# Altium footprint library AMP Footprints.PcbLib: 903 footprints (part 49 of 58)
Each footprint in its own frame and in the unit in brackets; x right, y up, seen from the top. Pads: shape width x height; smd on the part's side, far side on the other; paste and mask are expansions set on the pad; w line width, h text height; cw(c..) or ccw(c..) is an arc to the next point about the centre after c.
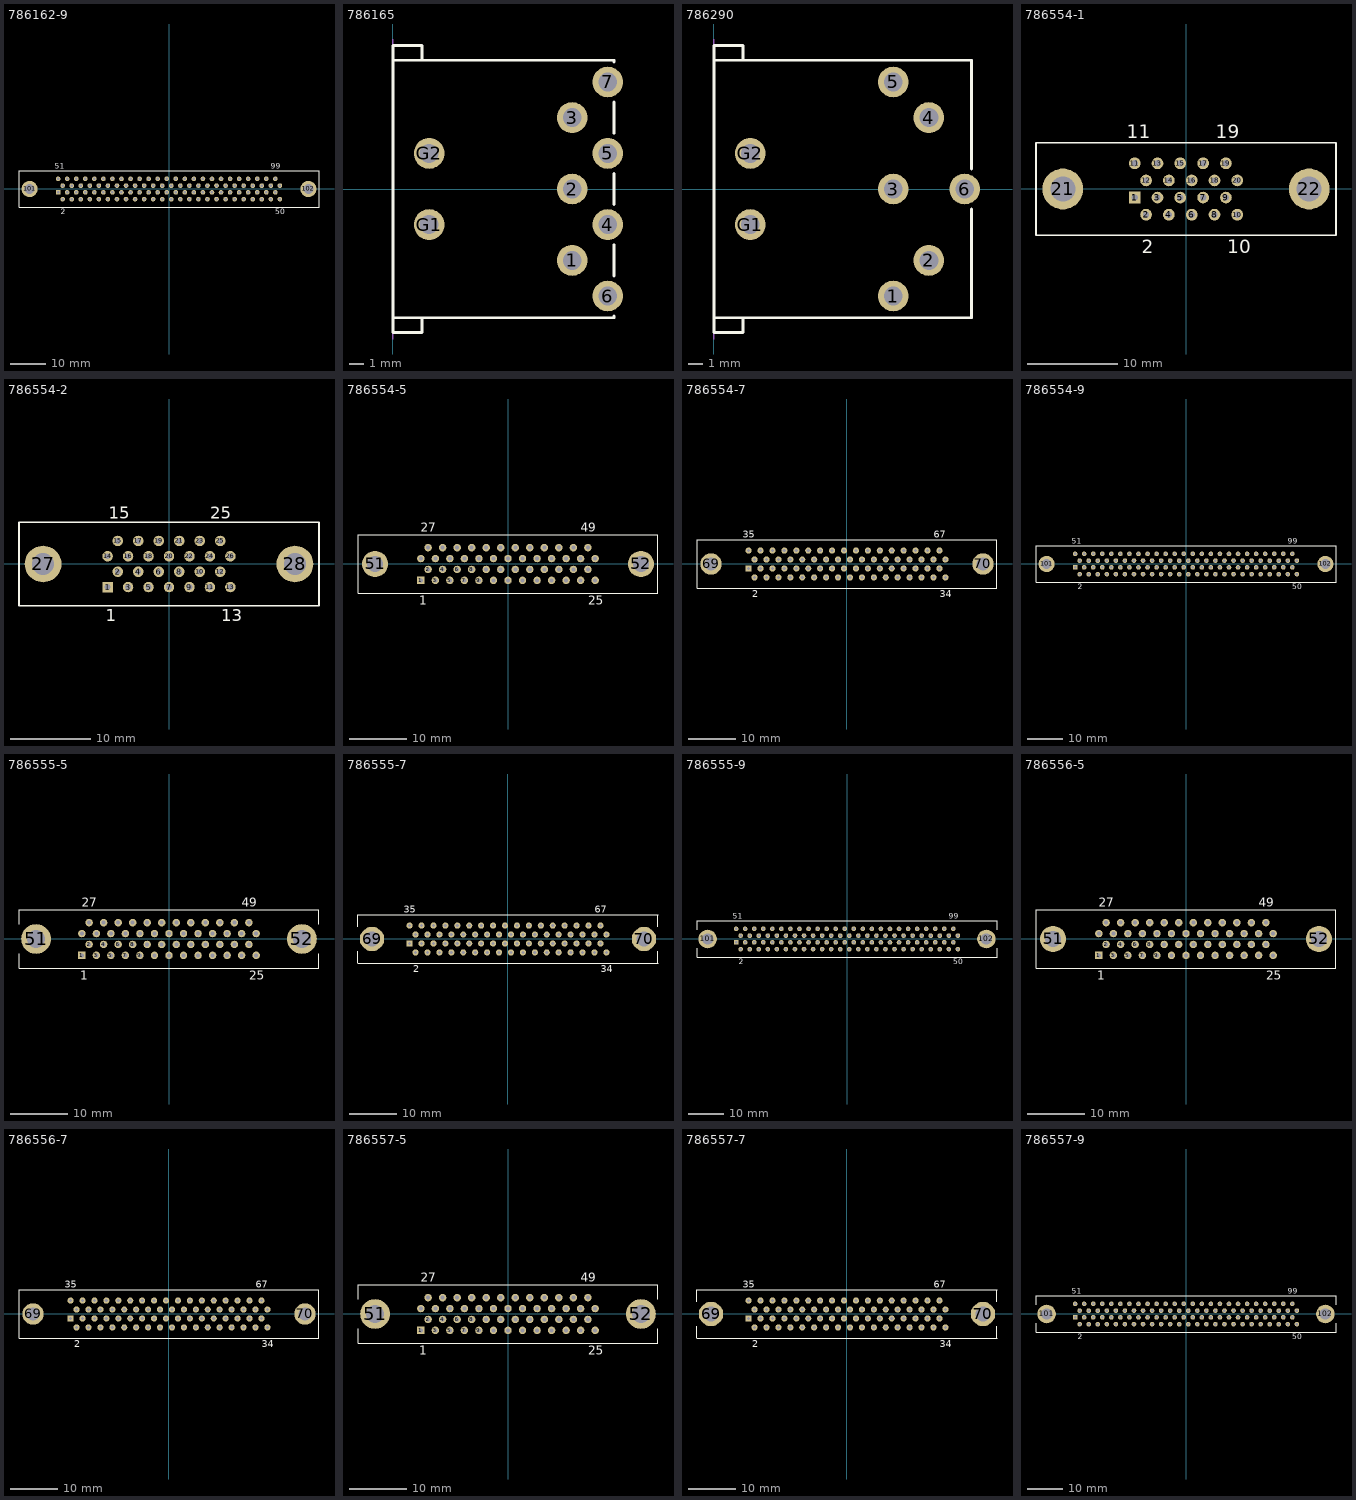
[diagram p48: the footprints below, top view; thin cyan lines are the x and y axes]

## 786162-9 [mil] "Connector; D Subminiature 050 Series; 100 Position; Vertical"
height 356.3
pads (102):
  rect 51.22x51.22 hole 27.6: 1(-1225,-37.5)
  round 51.22 hole 27.6: 2(-1175,-112.5) 3(-1125,-37.5) 4(-1075,-112.5) 5(-1025,-37.5) 6(-975,-112.5) 7(-925,-37.5) 8(-875,-112.5) 9(-825,-37.5) 10(-775,-112.5) 11(-725,-37.5) 12(-675,-112.5) 13(-625,-37.5) 14(-575,-112.5) 15(-525,-37.5) 16(-475,-112.5) 17(-425,-37.5) 18(-375,-112.5) 19(-325,-37.5) 20(-275,-112.5) 21(-225,-37.5) 22(-175,-112.5) 23(-125,-37.5) 24(-75,-112.5) 25(-25,-37.5) 26(25,-112.5) 27(75,-37.5) 28(125,-112.5) 29(175,-37.5) 30(225,-112.5) 31(275,-37.5) 32(325,-112.5) 33(375,-37.5) 34(425,-112.5) 35(475,-37.5) 36(525,-112.5) 37(575,-37.5) 38(625,-112.5) 39(675,-37.5) 40(725,-112.5) 41(775,-37.5) 42(825,-112.5) 43(875,-37.5) 44(925,-112.5) 45(975,-37.5) 46(1025,-112.5) 47(1075,-37.5) 48(1125,-112.5) 49(1175,-37.5) 50(1225,-112.5) 51(-1225,112.5) 52(-1175,37.5) 53(-1125,112.5) 54(-1075,37.5) 55(-1025,112.5) 56(-975,37.5) 57(-925,112.5) 58(-875,37.5) 59(-825,112.5) 60(-775,37.5) 61(-725,112.5) 62(-675,37.5) 63(-625,112.5) 64(-575,37.5) 65(-525,112.5) 66(-475,37.5) 67(-425,112.5) 68(-375,37.5) 69(-325,112.5) 70(-275,37.5) 71(-225,112.5) 72(-175,37.5) 73(-125,112.5) 74(-75,37.5) 75(-25,112.5) 76(25,37.5) 77(75,112.5) 78(125,37.5) 79(175,112.5) 80(225,37.5) 81(275,112.5) 82(325,37.5) 83(375,112.5) 84(425,37.5) 85(475,112.5) 86(525,37.5) 87(575,112.5) 88(625,37.5) 89(675,112.5) 90(725,37.5) 91(775,112.5) 92(825,37.5) 93(875,112.5) 94(925,37.5) 95(975,112.5) 96(1025,37.5) 97(1075,112.5) 98(1125,37.5) 99(1175,112.5) 100(1225,37.5)
  round 179.13 hole 109.06: 101(-1539.96,0) 102(1539.96,0)
Top Overlay:
  lines w7.87: -1657.48,-202.95 1657.48,-202.95 1657.48,202.95 -1657.48,202.95 -1657.48,-202.95
  text "99" at 1125.79,221.65 h59.06
  text "2" at -1194.68,-280.71 h59.06
  text "51" at -1264.37,221.65 h59.06
  text "50" at 1175.79,-280.71 h59.06

## 786165 [mm] "Connector; Circular DIN, Thru-Hole; 7 Position; Right Angle; Pitch 2.49/2.51 mm; Body 18.03 x 15.49 x 20.83 mm (WxTxH)"
height 20.83
pads (9):
  round 2.15 hole 1.32: 1(12.55,-5) 2(12.55,0) 3(12.55,5) 4(15.04,-2.49) 5(15.04,2.49) 6(15.04,-7.49) 7(15.04,7.49) G1(2.54,-2.49) G2(2.54,2.49)
Top Overlay:
  lines w0.2: 2.03,-9.015 2.03,-10.035 0,-10.035 0,-9.015 ; 2.03,9.015 2.03,10.035 0,10.035 0,9.015 ; 15.49,-8.9 15.49,-9.015 0,-9.015 ; 15.49,-6.08 15.49,-3.9 ; 15.49,-1.08 15.49,1.08 ; 15.49,3.9 15.49,6.08 ; 15.49,8.9 15.49,9.015 0,9.015 ; 0,-9.015 0,9.015
Mechanical 1:
  lines w0.1: 0,-10.5 0,10.5
  text "PCB Edge" at 0.6,-8.6 h0.25

## 786290 [mm] "Connector; Circular DIN, Thru-Hole; 6 Position; Right Angle; Pitch 2.49/2.51 mm; Body 18.03 x 18.00 x 20.83 mm (WxTxH)"
height 20.83
pads (8):
  round 2.15 hole 1.32: 1(12.55,-7.49) 2(15.04,-5) 3(12.55,0) 4(15.04,5) 5(12.55,7.49) 6(17.55,0) G1(2.54,-2.49) G2(2.54,2.49)
Top Overlay:
  lines w0.2: 2.03,-9.015 2.03,-10.035 0,-10.035 0,-9.015 ; 2.03,9.015 2.03,10.035 0,10.035 0,9.015 ; 18.03,-1.4 18.03,-9.015 0,-9.015 ; 18.03,1.4 18.03,9.015 0,9.015 ; 0,-9.015 0,9.015
Mechanical 1:
  lines w0.1: 0,-10.5 0,10.5
  text "PCB Edge" at 0.6,-8.6 h0.25

## 786554-1 [mil] "Connector; D Subminiature 050 Series; 20 Position; Vertical"
height 356.3
pads (22):
  rect 51.22x51.22 hole 27.6: 1(-225,-37.5)
  round 51.22 hole 27.6: 2(-175,-112.5) 3(-125,-37.5) 4(-75,-112.5) 5(-25,-37.5) 6(25,-112.5) 7(75,-37.5) 8(125,-112.5) 9(175,-37.5) 10(225,-112.5) 11(-225,112.5) 12(-175,37.5) 13(-125,112.5) 14(-75,37.5) 15(-25,112.5) 16(25,37.5) 17(75,112.5) 18(125,37.5) 19(175,112.5) 20(225,37.5)
  round 179.13 hole 109.06: 21(-539.96,0) 22(539.96,0)
Top Overlay:
  lines w7.87: -657.48,-202.95 657.48,-202.95 657.48,202.95 -657.48,202.95 -657.48,-202.95
  text "2" at -194.69,-280.71 h59.06
  text "11" at -259.45,221.65 h59.06
  text "10" at 180.71,-280.71 h59.06
  text "19" at 130.71,221.65 h59.06

## 786554-2 [mil] "Connector; D Subminiature 050 Series; 26 Position; Vertical"
height 356.3
pads (28):
  rect 51.22x51.22 hole 27.6: 1(-300,-112.5)
  round 51.22 hole 27.6: 2(-250,-37.5) 3(-200,-112.5) 4(-150,-37.5) 5(-100,-112.5) 6(-50,-37.5) 7(0,-112.5) 8(50,-37.5) 9(100,-112.5) 10(150,-37.5) 11(200,-112.5) 12(250,-37.5) 13(300,-112.5) 14(-300,37.5) 15(-250,112.5) 16(-200,37.5) 17(-150,112.5) 18(-100,37.5) 19(-50,112.5) 20(0,37.5) 21(50,112.5) 22(100,37.5) 23(150,112.5) 24(200,37.5) 25(250,112.5) 26(300,37.5)
  round 179.13 hole 109.06: 27(-614.96,0) 28(614.96,0)
Top Overlay:
  lines w7.87: -732.48,-202.95 -732.48,202.95 732.48,202.95 732.48,-202.95 -732.48,-202.95
  text "25" at 200.79,221.65 h59.06
  text "15" at -294.29,221.65 h59.06
  text "13" at 255.71,-280.71 h59.06
  text "1" at -309.84,-280.71 h59.06

## 786554-5 [mil] "Connector; D Subminiature 050 Series; 50 Position; Vertical"
height 356.3
pads (52):
  rect 51.22x51.22 hole 27.6: 1(-600,-112.5)
  round 51.22 hole 27.6: 2(-550,-37.5) 3(-500,-112.5) 4(-450,-37.5) 5(-400,-112.5) 6(-350,-37.5) 7(-300,-112.5) 8(-250,-37.5) 9(-200,-112.5) 10(-150,-37.5) 11(-100,-112.5) 12(-50,-37.5) 13(0,-112.5) 14(50,-37.5) 15(100,-112.5) 16(150,-37.5) 17(200,-112.5) 18(250,-37.5) 19(300,-112.5) 20(350,-37.5) 21(400,-112.5) 22(450,-37.5) 23(500,-112.5) 24(550,-37.5) 25(600,-112.5) 26(-600,37.5) 27(-550,112.5) 28(-500,37.5) 29(-450,112.5) 30(-400,37.5) 31(-350,112.5) 32(-300,37.5) 33(-250,112.5) 34(-200,37.5) 35(-150,112.5) 36(-100,37.5) 37(-50,112.5) 38(0,37.5) 39(50,112.5) 40(100,37.5) 41(150,112.5) 42(200,37.5) 43(250,112.5) 44(300,37.5) 45(350,112.5) 46(400,37.5) 47(450,112.5) 48(500,37.5) 49(550,112.5) 50(600,37.5)
  round 179.13 hole 109.06: 51(-914.96,0) 52(914.96,0)
Top Overlay:
  lines w7.87: -1032.48,-202.95 -1032.48,202.95 1032.48,202.95 1032.48,-202.95 -1032.48,-202.95
  text "49" at 500.79,221.65 h59.06
  text "27" at -599.21,221.65 h59.06
  text "25" at 550.79,-280.71 h59.06
  text "1" at -609.84,-280.71 h59.06

## 786554-7 [mil] "Connector; D Subminiature 050 Series; 68 Position; Vertical"
height 356.3
pads (70):
  rect 51.22x51.22 hole 27.6: 1(-825,-37.5)
  round 51.22 hole 27.6: 2(-775,-112.5) 3(-725,-37.5) 4(-675,-112.5) 5(-625,-37.5) 6(-575,-112.5) 7(-525,-37.5) 8(-475,-112.5) 9(-425,-37.5) 10(-375,-112.5) 11(-325,-37.5) 12(-275,-112.5) 13(-225,-37.5) 14(-175,-112.5) 15(-125,-37.5) 16(-75,-112.5) 17(-25,-37.5) 18(25,-112.5) 19(75,-37.5) 20(125,-112.5) 21(175,-37.5) 22(225,-112.5) 23(275,-37.5) 24(325,-112.5) 25(375,-37.5) 26(425,-112.5) 27(475,-37.5) 28(525,-112.5) 29(575,-37.5) 30(625,-112.5) 31(675,-37.5) 32(725,-112.5) 33(775,-37.5) 34(825,-112.5) 35(-825,112.5) 36(-775,37.5) 37(-725,112.5) 38(-675,37.5) 39(-625,112.5) 40(-575,37.5) 41(-525,112.5) 42(-475,37.5) 43(-425,112.5) 44(-375,37.5) 45(-325,112.5) 46(-275,37.5) 47(-225,112.5) 48(-175,37.5) 49(-125,112.5) 50(-75,37.5) 51(-25,112.5) 52(25,37.5) 53(75,112.5) 54(125,37.5) 55(175,112.5) 56(225,37.5) 57(275,112.5) 58(325,37.5) 59(375,112.5) 60(425,37.5) 61(475,112.5) 62(525,37.5) 63(575,112.5) 64(625,37.5) 65(675,112.5) 66(725,37.5) 67(775,112.5) 68(825,37.5)
  round 179.13 hole 109.06: 69(-1139.96,0) 70(1139.96,0)
Top Overlay:
  lines w7.87: -1257.48,-202.95 -1257.48,202.95 1257.48,202.95 1257.48,-202.95 -1257.48,-202.95
  text "2" at -794.68,-280.71 h59.06
  text "34" at 775.79,-280.71 h59.06
  text "35" at -874.21,221.65 h59.06
  text "67" at 725.79,221.65 h59.06

## 786554-9 [mil] "Connector; D Subminiature 050 Series; 100 Position; Vertical"
height 356.3
pads (102):
  rect 51.22x51.22 hole 27.6: 1(-1225,-37.5)
  round 51.22 hole 27.6: 2(-1175,-112.5) 3(-1125,-37.5) 4(-1075,-112.5) 5(-1025,-37.5) 6(-975,-112.5) 7(-925,-37.5) 8(-875,-112.5) 9(-825,-37.5) 10(-775,-112.5) 11(-725,-37.5) 12(-675,-112.5) 13(-625,-37.5) 14(-575,-112.5) 15(-525,-37.5) 16(-475,-112.5) 17(-425,-37.5) 18(-375,-112.5) 19(-325,-37.5) 20(-275,-112.5) 21(-225,-37.5) 22(-175,-112.5) 23(-125,-37.5) 24(-75,-112.5) 25(-25,-37.5) 26(25,-112.5) 27(75,-37.5) 28(125,-112.5) 29(175,-37.5) 30(225,-112.5) 31(275,-37.5) 32(325,-112.5) 33(375,-37.5) 34(425,-112.5) 35(475,-37.5) 36(525,-112.5) 37(575,-37.5) 38(625,-112.5) 39(675,-37.5) 40(725,-112.5) 41(775,-37.5) 42(825,-112.5) 43(875,-37.5) 44(925,-112.5) 45(975,-37.5) 46(1025,-112.5) 47(1075,-37.5) 48(1125,-112.5) 49(1175,-37.5) 50(1225,-112.5) 51(-1225,112.5) 52(-1175,37.5) 53(-1125,112.5) 54(-1075,37.5) 55(-1025,112.5) 56(-975,37.5) 57(-925,112.5) 58(-875,37.5) 59(-825,112.5) 60(-775,37.5) 61(-725,112.5) 62(-675,37.5) 63(-625,112.5) 64(-575,37.5) 65(-525,112.5) 66(-475,37.5) 67(-425,112.5) 68(-375,37.5) 69(-325,112.5) 70(-275,37.5) 71(-225,112.5) 72(-175,37.5) 73(-125,112.5) 74(-75,37.5) 75(-25,112.5) 76(25,37.5) 77(75,112.5) 78(125,37.5) 79(175,112.5) 80(225,37.5) 81(275,112.5) 82(325,37.5) 83(375,112.5) 84(425,37.5) 85(475,112.5) 86(525,37.5) 87(575,112.5) 88(625,37.5) 89(675,112.5) 90(725,37.5) 91(775,112.5) 92(825,37.5) 93(875,112.5) 94(925,37.5) 95(975,112.5) 96(1025,37.5) 97(1075,112.5) 98(1125,37.5) 99(1175,112.5) 100(1225,37.5)
  round 179.13 hole 109.06: 101(-1539.96,0) 102(1539.96,0)
Top Overlay:
  lines w7.87: -1657.48,-202.95 1657.48,-202.95 1657.48,202.95 -1657.48,202.95 -1657.48,-202.95
  text "99" at 1125.79,221.65 h59.06
  text "2" at -1194.68,-280.71 h59.06
  text "51" at -1264.37,221.65 h59.06
  text "50" at 1175.79,-280.71 h59.06

## 786555-5 [mil] "Connector; D Subminiature 050 Series; 50 Position; Vertical"
height 348.03
pads (52):
  rect 51.22x51.22 hole 27.6: 1(-600,-112.5)
  round 51.22 hole 27.6: 2(-550,-37.5) 3(-500,-112.5) 4(-450,-37.5) 5(-400,-112.5) 6(-350,-37.5) 7(-300,-112.5) 8(-250,-37.5) 9(-200,-112.5) 10(-150,-37.5) 11(-100,-112.5) 12(-50,-37.5) 13(0,-112.5) 14(50,-37.5) 15(100,-112.5) 16(150,-37.5) 17(200,-112.5) 18(250,-37.5) 19(300,-112.5) 20(350,-37.5) 21(400,-112.5) 22(450,-37.5) 23(500,-112.5) 24(550,-37.5) 25(600,-112.5) 26(-600,37.5) 27(-550,112.5) 28(-500,37.5) 29(-450,112.5) 30(-400,37.5) 31(-350,112.5) 32(-300,37.5) 33(-250,112.5) 34(-200,37.5) 35(-150,112.5) 36(-100,37.5) 37(-50,112.5) 38(0,37.5) 39(50,112.5) 40(100,37.5) 41(150,112.5) 42(200,37.5) 43(250,112.5) 44(300,37.5) 45(350,112.5) 46(400,37.5) 47(450,112.5) 48(500,37.5) 49(550,112.5) 50(600,37.5)
  round 204.72 hole 125.2: 51(-914.96,0) 52(914.96,0)
Top Overlay:
  lines w7.87: -1032.48,-102.06 -1032.48,-202.95 1032.48,-202.95 1032.48,-102.06 ; -1032.48,102.06 -1032.48,202.95 1032.48,202.95 1032.48,102.06
  text "1" at -609.84,-280.71 h59.06
  text "25" at 550.79,-280.71 h59.06
  text "27" at -599.21,221.65 h59.06
  text "49" at 500.79,221.65 h59.06

## 786555-7 [mil] "Connector; D Subminiature 050 Series; 68 Position; Vertical"
height 348.03
pads (70):
  rect 51.22x51.22 hole 27.6: 1(-825,-37.5)
  round 51.22 hole 27.6: 2(-775,-112.5) 3(-725,-37.5) 4(-675,-112.5) 5(-625,-37.5) 6(-575,-112.5) 7(-525,-37.5) 8(-475,-112.5) 9(-425,-37.5) 10(-375,-112.5) 11(-325,-37.5) 12(-275,-112.5) 13(-225,-37.5) 14(-175,-112.5) 15(-125,-37.5) 16(-75,-112.5) 17(-25,-37.5) 18(25,-112.5) 19(75,-37.5) 20(125,-112.5) 21(175,-37.5) 22(225,-112.5) 23(275,-37.5) 24(325,-112.5) 25(375,-37.5) 26(425,-112.5) 27(475,-37.5) 28(525,-112.5) 29(575,-37.5) 30(625,-112.5) 31(675,-37.5) 32(725,-112.5) 33(775,-37.5) 34(825,-112.5) 35(-825,112.5) 36(-775,37.5) 37(-725,112.5) 38(-675,37.5) 39(-625,112.5) 40(-575,37.5) 41(-525,112.5) 42(-475,37.5) 43(-425,112.5) 44(-375,37.5) 45(-325,112.5) 46(-275,37.5) 47(-225,112.5) 48(-175,37.5) 49(-125,112.5) 50(-75,37.5) 51(-25,112.5) 52(25,37.5) 53(75,112.5) 54(125,37.5) 55(175,112.5) 56(225,37.5) 57(275,112.5) 58(325,37.5) 59(375,112.5) 60(425,37.5) 61(475,112.5) 62(525,37.5) 63(575,112.5) 64(625,37.5) 65(675,112.5) 66(725,37.5) 67(775,112.5) 68(825,37.5)
  round 204.72 hole 125.2: 69(-1139.96,0) 70(1139.96,0)
Top Overlay:
  lines w7.87: -1257.48,-102.06 -1257.48,-202.95 1257.48,-202.95 1257.48,-102.06 ; -1257.48,102.06 -1257.48,202.95 1257.48,202.95 1257.48,102.06
  text "2" at -794.68,-280.71 h59.06
  text "34" at 775.79,-280.71 h59.06
  text "35" at -874.21,221.65 h59.06
  text "67" at 725.79,221.65 h59.06

## 786555-9 [mil] "Connector; D Subminiature 050 Series; 100 Position; Vertical"
height 348.03
pads (102):
  rect 51.22x51.22 hole 27.6: 1(-1225,-37.5)
  round 51.22 hole 27.6: 2(-1175,-112.5) 3(-1125,-37.5) 4(-1075,-112.5) 5(-1025,-37.5) 6(-975,-112.5) 7(-925,-37.5) 8(-875,-112.5) 9(-825,-37.5) 10(-775,-112.5) 11(-725,-37.5) 12(-675,-112.5) 13(-625,-37.5) 14(-575,-112.5) 15(-525,-37.5) 16(-475,-112.5) 17(-425,-37.5) 18(-375,-112.5) 19(-325,-37.5) 20(-275,-112.5) 21(-225,-37.5) 22(-175,-112.5) 23(-125,-37.5) 24(-75,-112.5) 25(-25,-37.5) 26(25,-112.5) 27(75,-37.5) 28(125,-112.5) 29(175,-37.5) 30(225,-112.5) 31(275,-37.5) 32(325,-112.5) 33(375,-37.5) 34(425,-112.5) 35(475,-37.5) 36(525,-112.5) 37(575,-37.5) 38(625,-112.5) 39(675,-37.5) 40(725,-112.5) 41(775,-37.5) 42(825,-112.5) 43(875,-37.5) 44(925,-112.5) 45(975,-37.5) 46(1025,-112.5) 47(1075,-37.5) 48(1125,-112.5) 49(1175,-37.5) 50(1225,-112.5) 51(-1225,112.5) 52(-1175,37.5) 53(-1125,112.5) 54(-1075,37.5) 55(-1025,112.5) 56(-975,37.5) 57(-925,112.5) 58(-875,37.5) 59(-825,112.5) 60(-775,37.5) 61(-725,112.5) 62(-675,37.5) 63(-625,112.5) 64(-575,37.5) 65(-525,112.5) 66(-475,37.5) 67(-425,112.5) 68(-375,37.5) 69(-325,112.5) 70(-275,37.5) 71(-225,112.5) 72(-175,37.5) 73(-125,112.5) 74(-75,37.5) 75(-25,112.5) 76(25,37.5) 77(75,112.5) 78(125,37.5) 79(175,112.5) 80(225,37.5) 81(275,112.5) 82(325,37.5) 83(375,112.5) 84(425,37.5) 85(475,112.5) 86(525,37.5) 87(575,112.5) 88(625,37.5) 89(675,112.5) 90(725,37.5) 91(775,112.5) 92(825,37.5) 93(875,112.5) 94(925,37.5) 95(975,112.5) 96(1025,37.5) 97(1075,112.5) 98(1125,37.5) 99(1175,112.5) 100(1225,37.5)
  round 204.72 hole 125.2: 101(-1539.96,0) 102(1539.96,0)
Top Overlay:
  lines w7.87: -1657.48,-102.06 -1657.48,-202.95 1657.48,-202.95 1657.48,-102.06 ; -1657.48,102.06 -1657.48,202.95 1657.48,202.95 1657.48,102.06
  text "50" at 1175.79,-280.71 h59.06
  text "51" at -1264.37,221.65 h59.06
  text "2" at -1194.68,-280.71 h59.06
  text "99" at 1125.79,221.65 h59.06

## 786556-5 [mil] "Connector; D Subminiature 050 Series; 50 Position; Vertical"
height 356.3
pads (52):
  rect 51.22x51.22 hole 27.6: 1(-600,-112.5)
  round 51.22 hole 27.6: 2(-550,-37.5) 3(-500,-112.5) 4(-450,-37.5) 5(-400,-112.5) 6(-350,-37.5) 7(-300,-112.5) 8(-250,-37.5) 9(-200,-112.5) 10(-150,-37.5) 11(-100,-112.5) 12(-50,-37.5) 13(0,-112.5) 14(50,-37.5) 15(100,-112.5) 16(150,-37.5) 17(200,-112.5) 18(250,-37.5) 19(300,-112.5) 20(350,-37.5) 21(400,-112.5) 22(450,-37.5) 23(500,-112.5) 24(550,-37.5) 25(600,-112.5) 26(-600,37.5) 27(-550,112.5) 28(-500,37.5) 29(-450,112.5) 30(-400,37.5) 31(-350,112.5) 32(-300,37.5) 33(-250,112.5) 34(-200,37.5) 35(-150,112.5) 36(-100,37.5) 37(-50,112.5) 38(0,37.5) 39(50,112.5) 40(100,37.5) 41(150,112.5) 42(200,37.5) 43(250,112.5) 44(300,37.5) 45(350,112.5) 46(400,37.5) 47(450,112.5) 48(500,37.5) 49(550,112.5) 50(600,37.5)
  round 179.13 hole 109.06: 51(-914.96,0) 52(914.96,0)
Top Overlay:
  lines w7.87: -1032.48,-202.95 -1032.48,202.95 1032.48,202.95 1032.48,-202.95 -1032.48,-202.95
  text "49" at 500.79,221.65 h59.06
  text "27" at -599.21,221.65 h59.06
  text "25" at 550.79,-280.71 h59.06
  text "1" at -609.84,-280.71 h59.06

## 786556-7 [mil] "Connector; D Subminiature 050 Series; 68 Position; Vertical"
height 356.3
pads (70):
  rect 51.22x51.22 hole 27.6: 1(-825,-37.5)
  round 51.22 hole 27.6: 2(-775,-112.5) 3(-725,-37.5) 4(-675,-112.5) 5(-625,-37.5) 6(-575,-112.5) 7(-525,-37.5) 8(-475,-112.5) 9(-425,-37.5) 10(-375,-112.5) 11(-325,-37.5) 12(-275,-112.5) 13(-225,-37.5) 14(-175,-112.5) 15(-125,-37.5) 16(-75,-112.5) 17(-25,-37.5) 18(25,-112.5) 19(75,-37.5) 20(125,-112.5) 21(175,-37.5) 22(225,-112.5) 23(275,-37.5) 24(325,-112.5) 25(375,-37.5) 26(425,-112.5) 27(475,-37.5) 28(525,-112.5) 29(575,-37.5) 30(625,-112.5) 31(675,-37.5) 32(725,-112.5) 33(775,-37.5) 34(825,-112.5) 35(-825,112.5) 36(-775,37.5) 37(-725,112.5) 38(-675,37.5) 39(-625,112.5) 40(-575,37.5) 41(-525,112.5) 42(-475,37.5) 43(-425,112.5) 44(-375,37.5) 45(-325,112.5) 46(-275,37.5) 47(-225,112.5) 48(-175,37.5) 49(-125,112.5) 50(-75,37.5) 51(-25,112.5) 52(25,37.5) 53(75,112.5) 54(125,37.5) 55(175,112.5) 56(225,37.5) 57(275,112.5) 58(325,37.5) 59(375,112.5) 60(425,37.5) 61(475,112.5) 62(525,37.5) 63(575,112.5) 64(625,37.5) 65(675,112.5) 66(725,37.5) 67(775,112.5) 68(825,37.5)
  round 179.13 hole 109.06: 69(-1139.96,0) 70(1139.96,0)
Top Overlay:
  lines w7.87: -1257.48,-202.95 -1257.48,202.95 1257.48,202.95 1257.48,-202.95 -1257.48,-202.95
  text "2" at -794.68,-280.71 h59.06
  text "34" at 775.79,-280.71 h59.06
  text "35" at -874.21,221.65 h59.06
  text "67" at 725.79,221.65 h59.06

## 786557-5 [mil] "Connector; D Subminiature 050 Series; 50 Position; Vertical"
height 348.03
pads (52):
  rect 51.22x51.22 hole 27.6: 1(-600,-112.5)
  round 51.22 hole 27.6: 2(-550,-37.5) 3(-500,-112.5) 4(-450,-37.5) 5(-400,-112.5) 6(-350,-37.5) 7(-300,-112.5) 8(-250,-37.5) 9(-200,-112.5) 10(-150,-37.5) 11(-100,-112.5) 12(-50,-37.5) 13(0,-112.5) 14(50,-37.5) 15(100,-112.5) 16(150,-37.5) 17(200,-112.5) 18(250,-37.5) 19(300,-112.5) 20(350,-37.5) 21(400,-112.5) 22(450,-37.5) 23(500,-112.5) 24(550,-37.5) 25(600,-112.5) 26(-600,37.5) 27(-550,112.5) 28(-500,37.5) 29(-450,112.5) 30(-400,37.5) 31(-350,112.5) 32(-300,37.5) 33(-250,112.5) 34(-200,37.5) 35(-150,112.5) 36(-100,37.5) 37(-50,112.5) 38(0,37.5) 39(50,112.5) 40(100,37.5) 41(150,112.5) 42(200,37.5) 43(250,112.5) 44(300,37.5) 45(350,112.5) 46(400,37.5) 47(450,112.5) 48(500,37.5) 49(550,112.5) 50(600,37.5)
  round 204.72 hole 125.2: 51(-914.96,0) 52(914.96,0)
Top Overlay:
  lines w7.87: -1032.48,-102.06 -1032.48,-202.95 1032.48,-202.95 1032.48,-102.06 ; -1032.48,102.06 -1032.48,202.95 1032.48,202.95 1032.48,102.06
  text "1" at -609.84,-280.71 h59.06
  text "25" at 550.79,-280.71 h59.06
  text "27" at -599.21,221.65 h59.06
  text "49" at 500.79,221.65 h59.06

## 786557-7 [mil] "Connector; D Subminiature 050 Series; 68 Position; Vertical"
height 348.03
pads (70):
  rect 51.22x51.22 hole 27.6: 1(-825,-37.5)
  round 51.22 hole 27.6: 2(-775,-112.5) 3(-725,-37.5) 4(-675,-112.5) 5(-625,-37.5) 6(-575,-112.5) 7(-525,-37.5) 8(-475,-112.5) 9(-425,-37.5) 10(-375,-112.5) 11(-325,-37.5) 12(-275,-112.5) 13(-225,-37.5) 14(-175,-112.5) 15(-125,-37.5) 16(-75,-112.5) 17(-25,-37.5) 18(25,-112.5) 19(75,-37.5) 20(125,-112.5) 21(175,-37.5) 22(225,-112.5) 23(275,-37.5) 24(325,-112.5) 25(375,-37.5) 26(425,-112.5) 27(475,-37.5) 28(525,-112.5) 29(575,-37.5) 30(625,-112.5) 31(675,-37.5) 32(725,-112.5) 33(775,-37.5) 34(825,-112.5) 35(-825,112.5) 36(-775,37.5) 37(-725,112.5) 38(-675,37.5) 39(-625,112.5) 40(-575,37.5) 41(-525,112.5) 42(-475,37.5) 43(-425,112.5) 44(-375,37.5) 45(-325,112.5) 46(-275,37.5) 47(-225,112.5) 48(-175,37.5) 49(-125,112.5) 50(-75,37.5) 51(-25,112.5) 52(25,37.5) 53(75,112.5) 54(125,37.5) 55(175,112.5) 56(225,37.5) 57(275,112.5) 58(325,37.5) 59(375,112.5) 60(425,37.5) 61(475,112.5) 62(525,37.5) 63(575,112.5) 64(625,37.5) 65(675,112.5) 66(725,37.5) 67(775,112.5) 68(825,37.5)
  round 204.72 hole 125.2: 69(-1139.96,0) 70(1139.96,0)
Top Overlay:
  lines w7.87: -1257.48,-102.06 -1257.48,-202.95 1257.48,-202.95 1257.48,-102.06 ; -1257.48,102.06 -1257.48,202.95 1257.48,202.95 1257.48,102.06
  text "2" at -794.68,-280.71 h59.06
  text "34" at 775.79,-280.71 h59.06
  text "35" at -874.21,221.65 h59.06
  text "67" at 725.79,221.65 h59.06

## 786557-9 [mil] "Connector; D Subminiature 050 Series; 100 Position; Vertical"
height 348.03
pads (102):
  rect 51.22x51.22 hole 27.6: 1(-1225,-37.5)
  round 51.22 hole 27.6: 2(-1175,-112.5) 3(-1125,-37.5) 4(-1075,-112.5) 5(-1025,-37.5) 6(-975,-112.5) 7(-925,-37.5) 8(-875,-112.5) 9(-825,-37.5) 10(-775,-112.5) 11(-725,-37.5) 12(-675,-112.5) 13(-625,-37.5) 14(-575,-112.5) 15(-525,-37.5) 16(-475,-112.5) 17(-425,-37.5) 18(-375,-112.5) 19(-325,-37.5) 20(-275,-112.5) 21(-225,-37.5) 22(-175,-112.5) 23(-125,-37.5) 24(-75,-112.5) 25(-25,-37.5) 26(25,-112.5) 27(75,-37.5) 28(125,-112.5) 29(175,-37.5) 30(225,-112.5) 31(275,-37.5) 32(325,-112.5) 33(375,-37.5) 34(425,-112.5) 35(475,-37.5) 36(525,-112.5) 37(575,-37.5) 38(625,-112.5) 39(675,-37.5) 40(725,-112.5) 41(775,-37.5) 42(825,-112.5) 43(875,-37.5) 44(925,-112.5) 45(975,-37.5) 46(1025,-112.5) 47(1075,-37.5) 48(1125,-112.5) 49(1175,-37.5) 50(1225,-112.5) 51(-1225,112.5) 52(-1175,37.5) 53(-1125,112.5) 54(-1075,37.5) 55(-1025,112.5) 56(-975,37.5) 57(-925,112.5) 58(-875,37.5) 59(-825,112.5) 60(-775,37.5) 61(-725,112.5) 62(-675,37.5) 63(-625,112.5) 64(-575,37.5) 65(-525,112.5) 66(-475,37.5) 67(-425,112.5) 68(-375,37.5) 69(-325,112.5) 70(-275,37.5) 71(-225,112.5) 72(-175,37.5) 73(-125,112.5) 74(-75,37.5) 75(-25,112.5) 76(25,37.5) 77(75,112.5) 78(125,37.5) 79(175,112.5) 80(225,37.5) 81(275,112.5) 82(325,37.5) 83(375,112.5) 84(425,37.5) 85(475,112.5) 86(525,37.5) 87(575,112.5) 88(625,37.5) 89(675,112.5) 90(725,37.5) 91(775,112.5) 92(825,37.5) 93(875,112.5) 94(925,37.5) 95(975,112.5) 96(1025,37.5) 97(1075,112.5) 98(1125,37.5) 99(1175,112.5) 100(1225,37.5)
  round 204.72 hole 125.2: 101(-1539.96,0) 102(1539.96,0)
Top Overlay:
  lines w7.87: -1657.48,-102.06 -1657.48,-202.95 1657.48,-202.95 1657.48,-102.06 ; -1657.48,102.06 -1657.48,202.95 1657.48,202.95 1657.48,102.06
  text "50" at 1175.79,-280.71 h59.06
  text "51" at -1264.37,221.65 h59.06
  text "2" at -1194.68,-280.71 h59.06
  text "99" at 1125.79,221.65 h59.06